# EAGLE library part ADV7194 (library analog-devices)
Professional Extended-10 (TM) Video Encoder with 54 MHz Oversampling Auto generated by make-symbol-device-package-bsdl.ulp Rev. 33 Source: http://www.analog.com/static/imported-files/data_sheets/ADV7194.pdf
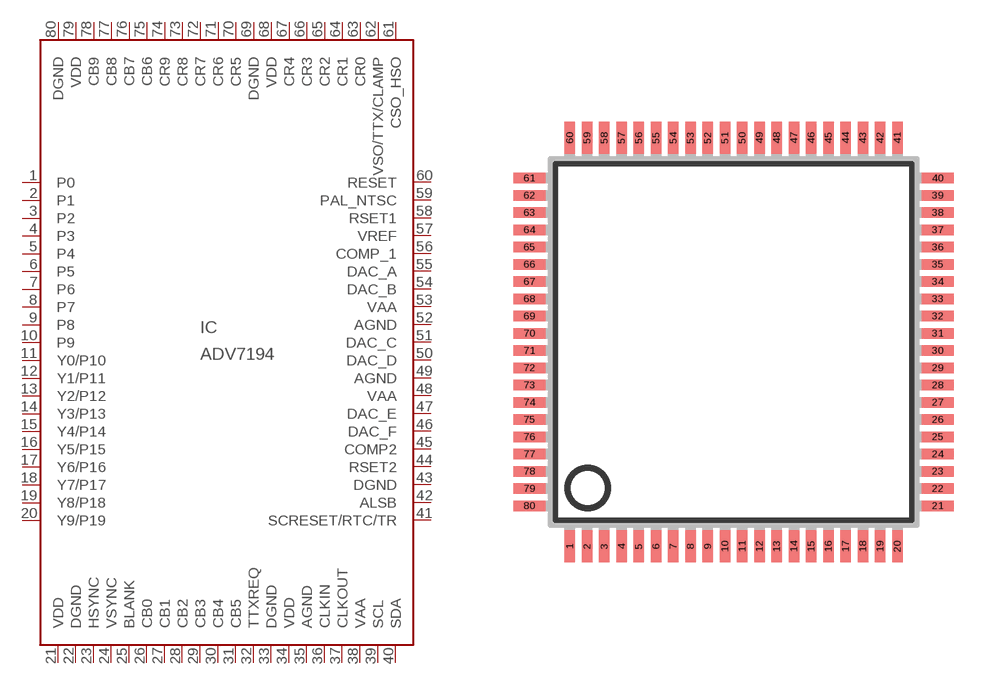
[diagram p138: symbol with the pads of LQFP80; footprint LQFP80]

Designator prefix IC

## ADV7194  [LQFP80]
1  P0  in
2  P1  in
3  P2  in
4  P3  in
5  P4  in
6  P5  in
7  P6  in
8  P7  in
9  P8  in
10  P9  in
11  Y0/P10  in
12  Y1/P11  in
13  Y2/P12  in
14  Y3/P13  in
15  Y4/P14  in
16  Y5/P15  in
17  Y6/P16  in
18  Y7/P17  in
19  Y8/P18  in
20  Y9/P19  in
21  VDD  pwr
22  DGND  pwr
23  HSYNC
24  VSYNC
25  BLANK
26  CB0  in
27  CB1  in
28  CB2  in
29  CB3  in
30  CB4  in
31  CB5  in
32  TTXREQ  out
33  DGND  pwr
34  VDD  pwr
35  AGND  pwr
36  CLKIN  in
37  CLKOUT  out
38  VAA  pwr
39  SCL  in
40  SDA
41  SCRESET/RTC/TR  in
42  ALSB  in
43  DGND  pwr
44  RSET2  in
45  COMP2  out
46  DAC_F  out
47  DAC_E  out
48  VAA  pwr
49  AGND  pwr
50  DAC_D  out
51  DAC_C  out
52  AGND  pwr
53  VAA  pwr
54  DAC_B  out
55  DAC_A  out
56  COMP_1  out
57  VREF
58  RSET1  in
59  PAL_NTSC  in
60  RESET  in
61  CSO_HSO  out
62  VSO/TTX/CLAMP
63  CR0  in
64  CR1  in
65  CR2  in
66  CR3  in
67  CR4  in
68  VDD  pwr
69  DGND  pwr
70  CR5  in
71  CR6  in
72  CR7  in
73  CR8  in
74  CR9  in
75  CB6  in
76  CB7  in
77  CB8  in
78  CB9  in
79  VDD  pwr
80  DGND  pwr

## Footprint LQFP80 (pad centres in mm)
80 Lead LQFP_ED (SQ-80) (ST-80) Source: www.analog.com .. AD9852_b.pdf
smd 0.4 x 1.2: 1 -6.175,-7.7; 2 -5.525,-7.7; 3 -4.875,-7.7; 4 -4.225,-7.7; 5 -3.575,-7.7; 6 -2.925,-7.7; 7 -2.275,-7.7; 8 -1.625,-7.7; 9 -0.975,-7.7; 10 -0.325,-7.7; 11 0.325,-7.7; 12 0.975,-7.7; 13 1.625,-7.7; 14 2.275,-7.7; 15 2.925,-7.7; 16 3.575,-7.7; 17 4.225,-7.7; 18 4.875,-7.7; 19 5.525,-7.7; 20 6.175,-7.7; 41 6.175,7.7; 42 5.525,7.7; 43 4.875,7.7; 44 4.225,7.7; 45 3.575,7.7; 46 2.925,7.7; 47 2.275,7.7; 48 1.625,7.7; 49 0.975,7.7; 50 0.325,7.7; 51 -0.325,7.7; 52 -0.975,7.7; 53 -1.625,7.7; 54 -2.275,7.7; 55 -2.925,7.7; 56 -3.575,7.7; 57 -4.225,7.7; 58 -4.875,7.7; 59 -5.525,7.7; 60 -6.175,7.7
smd 1.2 x 0.4: 21 7.7,-6.175; 22 7.7,-5.525; 23 7.7,-4.875; 24 7.7,-4.225; 25 7.7,-3.575; 26 7.7,-2.925; 27 7.7,-2.275; 28 7.7,-1.625; 29 7.7,-0.975; 30 7.7,-0.325; 31 7.7,0.325; 32 7.7,0.975; 33 7.7,1.625; 34 7.7,2.275; 35 7.7,2.925; 36 7.7,3.575; 37 7.7,4.225; 38 7.7,4.875; 39 7.7,5.525; 40 7.7,6.175; 61 -7.7,6.175; 62 -7.7,5.525; 63 -7.7,4.875; 64 -7.7,4.225; 65 -7.7,3.575; 66 -7.7,2.925; 67 -7.7,2.275; 68 -7.7,1.625; 69 -7.7,0.975; 70 -7.7,0.325; 71 -7.7,-0.325; 72 -7.7,-0.975; 73 -7.7,-1.625; 74 -7.7,-2.275; 75 -7.7,-2.925; 76 -7.7,-3.575; 77 -7.7,-4.225; 78 -7.7,-4.875; 79 -7.7,-5.525; 80 -7.7,-6.175